# Altium footprint library SparkFun-Resistors.PCBLIB: 38 footprints (part 3 of 3)
Each footprint in its own frame and in the unit in brackets; x right, y up, seen from the top. Pads: shape width x height; smd on the part's side, far side on the other; paste and mask are expansions set on the pad; w line width, h text height; cw(c..) or ccw(c..) is an arc to the next point about the centre after c.
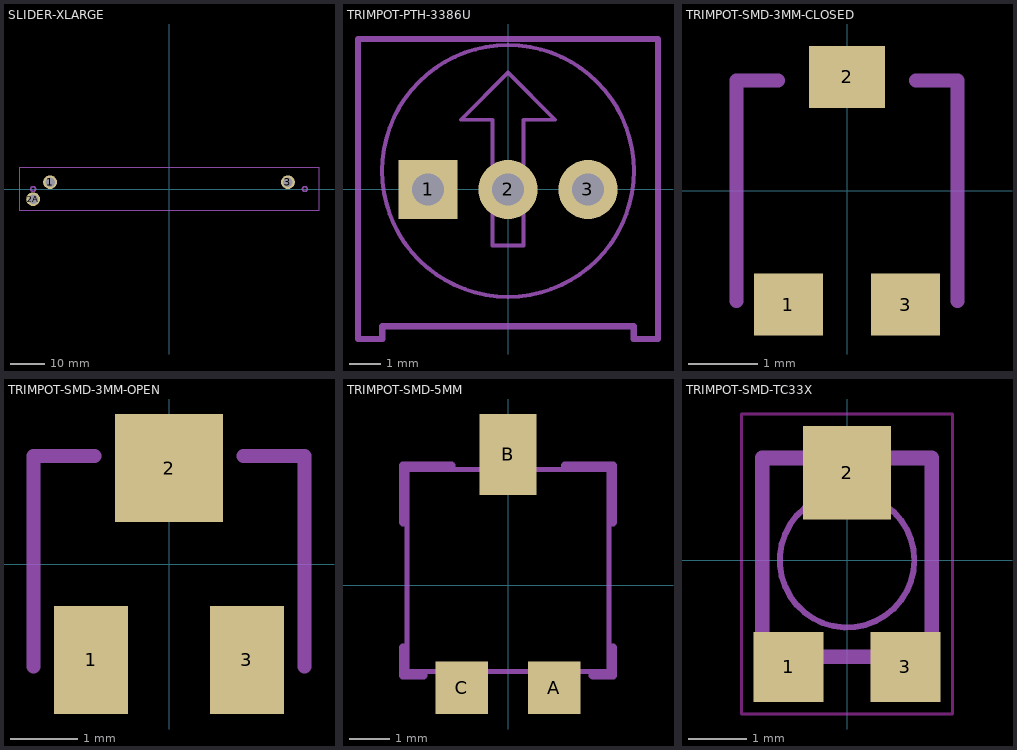
[diagram p2: the footprints below, top view; thin cyan lines are the x and y axes]

## SLIDER-XLARGE [mil]
pads (3):
  round 160 hole 110.24: 1(-1377.95,78.74) 2A(-1574.8,-118.11) 3(1377.95,78.74)
tPlace:
  circle w19.69: c-1574.8,0 r27.56
  circle w19.69: c1574.8,0 r27.56
  lines w8: -1738.19,-246.06 1738.19,-246.06 1738.19,246.06 -1738.19,246.06 -1738.19,-246.06

## TRIMPOT-PTH-3386U [mil]
pads (3):
  rect 74x74 / inner round 68.37 / far side rect 74x74 hole 40: 1(-100,-0.59)
  round 74 hole 40: 2(0,-0.59) 3(100,-0.59)
tDocu:
  circle w5: c0,22.64 r157.48
  lines w5: -59.06,86.61 -19.69,86.61 -19.69,-70.87 19.69,-70.87 19.69,86.61 59.06,86.61 0,145.67 -59.06,86.61
tPlace:
  lines w8: -187.6,-187.6 -157.48,-187.6 -157.48,-171.85 157.48,-171.85 157.48,-187.6 187.6,-187.6 187.6,187.6 -187.6,187.6 -187.6,-187.6

## TRIMPOT-SMD-3MM-CLOSED [mm]
pads (3):
  rect 1x0.9 smd: 1(-0.85,-1.65) 3(0.85,-1.65)
  rect 1.1x0.9 smd: 2(0,1.65)
tPlace:
  lines w0.203: -1.6,-1.6 -1.6,1.6 -1,1.6 ; 1,1.6 1.6,1.6 1.6,-1.6

## TRIMPOT-SMD-3MM-OPEN [mil]
pads (3):
  rect 43x63 smd: 1(-45.46,-55.96) 3(45.46,-55.96)
  rect 63x63 smd: 2(0,55.96)
tPlace:
  lines w8: -78.99,-59.99 -78.99,62.99 -43.37,62.99 ; 43.37,62.99 78.99,62.99 78.99,-59.99

## TRIMPOT-SMD-5MM [mm]
pads (3):
  rect 1.3x1.3 smd: A(1.15,-2.54) C(-1.15,-2.54)
  rect 1.402x2 smd: B(0,3.238)
tDocu:
  lines w0.127: -2.5,-2.14 -2.5,2.86 2.5,2.86 2.5,-2.14 -2.5,-2.14
tPlace:
  lines w0.203: -2.6,-1.54 -2.6,-2.24 -2.094,-2.24 ; -2.6,1.56 -2.6,2.96 -1.4,2.96 ; 1.409,2.96 2.6,2.96 2.6,1.56 ; 2.1,-2.24 2.6,-2.24 2.6,-1.54

## TRIMPOT-SMD-TC33X [mm]
pads (3):
  rect 1.2x1.2 smd: 1(-1,-1.825) 3(1,-1.825)
  rect 1.5x1.6 smd: 2(0,1.5)
Top keep-out:
  lines w0.051: -1.803,-2.629 1.803,-2.629 1.803,2.502 -1.803,2.502 -1.803,-2.629
tDocu:
  circle w0.102: c0,0 r1.15
  lines w0.254: -1.45,-1.65 -1.45,1.75 1.45,1.75 1.45,-1.65 -1.45,-1.65
tPlace:
  lines w0.254: -1.45,-0.4 -1.45,1.75 -0.85,1.75 ; 0.85,1.75 1.45,1.75 1.45,-0.4